# EAGLE library part TL072 (library IC_Linear)
FET-Input Operational Amplifiers Reference Datasheet <https://www.ti.com/lit/ds/symlink/tl072.pdf?ts=1645679391516&ref_url=https%253A%252F%252Fwww.google.com%252F>
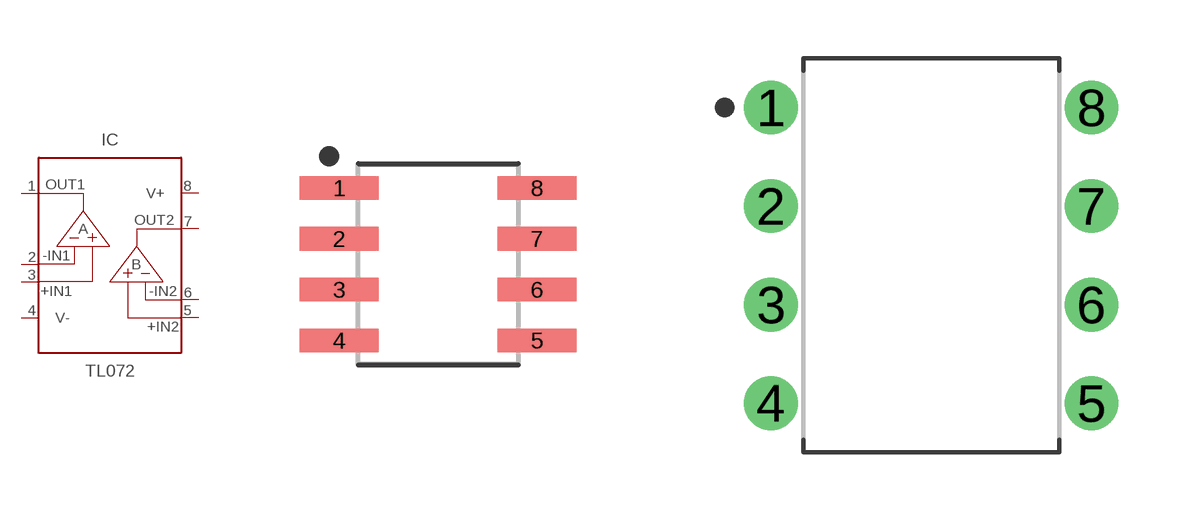
[diagram p5: symbol with the pads of SOIC127P600X175-8N; footprints SOIC127P600X175-8N, DIP826W53P254L959H508Q8B]

Designator prefix IC

## TL072_SOIC (CATEGORY: Amplifier; DESCRIPTION: FET-Input Operational Amplifiers; MANUFACTURER: Generic; MPN: Generic; SERIES: TL072; SUB-CATEGORY: OpAmp; TYPE: FET-Input; VALUE: TL072)  [SOIC127P600X175-8N]
1  OUT1  pas
2  -IN1  in
3  +IN1  in
4  V-
5  +IN2  pas
6  -IN2  pas
7  OUT2  pas
8  V+

## TL072_DIP (CATEGORY: Amplifier; DESCRIPTION: FET-Input Operational Amplifiers; MANUFACTURER: Generic; MPN: Generic; SERIES: TL072; SUB-CATEGORY: OpAmp; TYPE: FET-Input)  [DIP826W53P254L959H508Q8B]
Pads as for SOIC127P600X175-8N

## Footprint SOIC127P600X175-8N (pad centres in mm)
8-SOIC, 1.27 mm pitch, 6.00 mm span, 4.90 X 3.90 X 1.75 mm body 8-pin SOIC package with 1.27 mm pitch, 6.00 mm span with body size 4.90 X 3.90 X 1.75 mm
smd 1.969 x 0.592: 1 -2.474,1.905; 2 -2.474,0.635; 3 -2.474,-0.635; 4 -2.474,-1.905; 5 2.474,-1.905; 6 2.474,-0.635; 7 2.474,0.635; 8 2.474,1.905

## Footprint DIP826W53P254L959H508Q8B (pad centres in mm)
8-DIP, 2.54 mm (0.10 in) pitch, 8.26 mm (0.33 in) span, 9.59 X 6.35 X 5.08 mm body 8-pin DIP package with 2.54 mm (0.10 in) pitch, 8.26 mm (0.33 in) span with body size 9.59 X 6.35 X 5.08 mm
drill 0.786 pad 1.386: 1 -4.13,3.81; 2 -4.13,1.27; 3 -4.13,-1.27; 4 -4.13,-3.81; 5 4.13,-3.81; 6 4.13,-1.27; 7 4.13,1.27; 8 4.13,3.81